# Altium schematic symbol library AmpThyOp_TLC082IDR.SchLib: 1 symbol
Pins are listed as number, name and electrical type; pins without a type are passive.

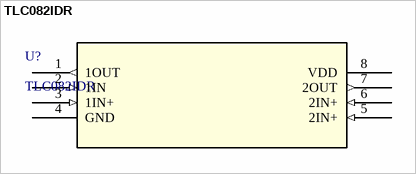
[diagram p0: symbol TLC082IDR]

## TLC082IDR
designator U?
Dual, 16-V, 10-MHz, In to V- op amp 8-SOIC -40 to 125; Manufacturer_Name: Texas Instruments; Copyright: Copyright (C) 2026 Ultra Librarian. All rights reserved.; Manufacturer_Part_Number: TLC082IDR; Datasheet: https://www.ti.com/lit/gpn/tlc082; RefDes: RefDes; Type: Type
footprint D8
pins: 1 1OUT (out), 2 1IN (in), 3 1IN+ (in), 4 GND (power), 5 2IN+ (in), 6 2IN+ (in), 7 2OUT (out), 8 VDD (power)